# Altium schematic symbol library 3503G2B1K0FTDF.SchLib: 1 symbol
Pins are listed as number, name and electrical type; pins without a type are passive.

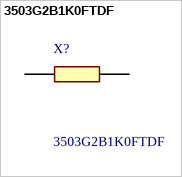
[diagram p0: symbol 3503G2B1K0FTDF]

## 3503G2B1K0FTDF
designator X?
1 kOhms +/-1% 2W Chip Resistor 1206 (3216 Metric) Thin Film; Manufacturer_Name: TE Connectivity; Geometry.Height: 0.58mm; Mouser Part Number: 279-3503G2B1K0FTDF; Mouser Price/Stock: https://www.mouser.co.uk/ProductDetail/TE-Connectivity-Holsworthy/3503G2B1K0FTDF?qs=By6Nw2ByBD13Y8cdbUYjIQ%3D%3D; Manufacturer_Part_Number: 3503G2B1K0FTDF; Datasheet Link: https://www.te.com/commerce/DocumentDelivery/DDEController?Action=srchrtrv&DocNm=1773270-4&DocType=Data%20Sheet&DocLang=English&PartCntxt=2-2176524-6&DocFormat=pdf
footprint RESC3016X58N
pins: 1, 2